# EAGLE library part RASPBERRY_PI4/3B+/ZERO (library FlashPCB_DevBoards)
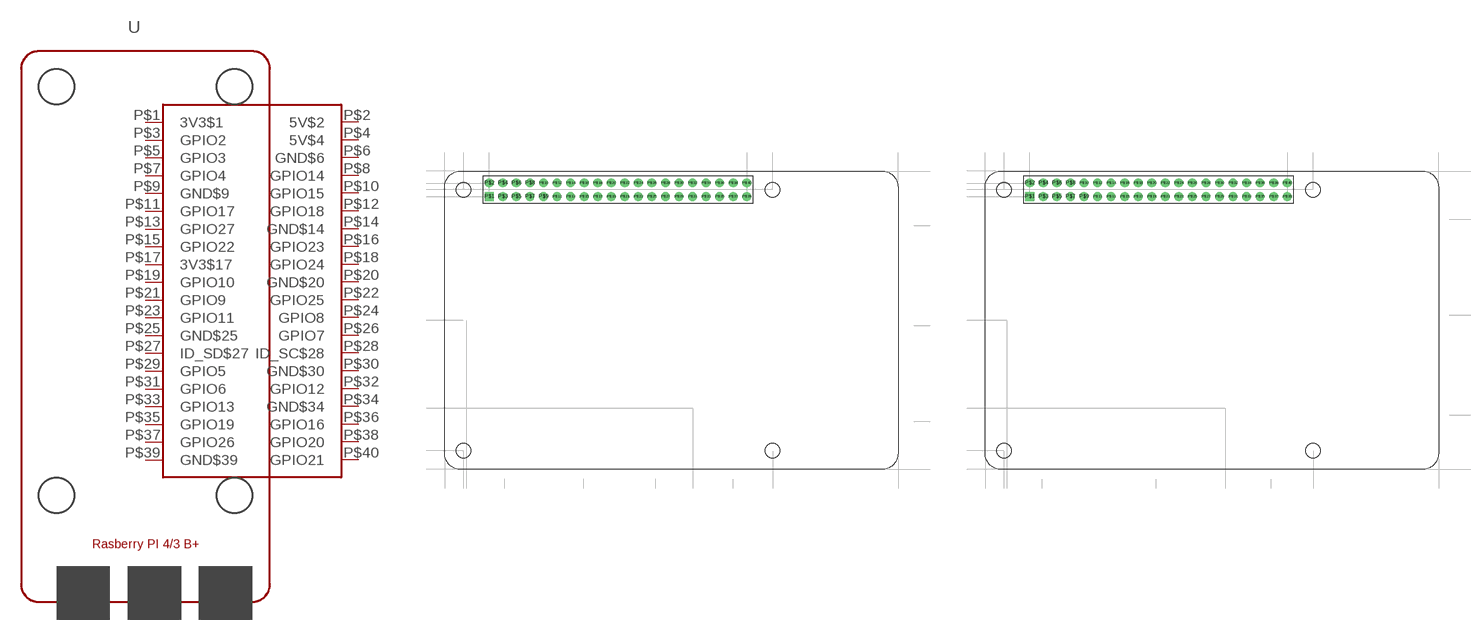
[diagram p7: symbol with the pads of RASPBERRY_PI4_HAT; footprints RASPBERRY_PI4_HAT, RASPBERRY_PI3B/B+_HAT]

Designator prefix U

## RASPBERRY_PI4/3B+/ZEROPI4  [RASPBERRY_PI4_HAT]
P$1  3V3$1
P$2  5V$2
P$3  GPIO2
P$4  5V$4
P$5  GPIO3
P$6  GND$6
P$7  GPIO4
P$8  GPIO14
P$9  GND$9
P$10  GPIO15
P$11  GPIO17
P$12  GPIO18
P$13  GPIO27
P$14  GND$14
P$15  GPIO22
P$16  GPIO23
P$17  3V3$17
P$18  GPIO24
P$19  GPIO10
P$20  GND$20
P$21  GPIO9
P$22  GPIO25
P$23  GPIO11
P$24  GPIO8
P$25  GND$25
P$26  GPIO7
P$27  ID_SD$27
P$28  ID_SC$28
P$29  GPIO5
P$30  GND$30
P$31  GPIO6
P$32  GPIO12
P$33  GPIO13
P$34  GND$34
P$35  GPIO19
P$36  GPIO16
P$37  GPIO26
P$38  GPIO20
P$39  GND$39
P$40  GPIO21

## RASPBERRY_PI4/3B+/ZEROPI3B/B+  [RASPBERRY_PI3B/B+_HAT]
Pads as for RASPBERRY_PI4_HAT

## RASPBERRY_PI4/3B+/ZERORASPBERRY_PI_ZERO  [RASPBERRY_PI_ZERO_HAT]
Pads as for RASPBERRY_PI4_HAT

## Footprint RASPBERRY_PI4_HAT (pad centres in mm)
kitID='6345d01949babf92f2962490'
drill 1.1 square: P$1 8.37,51.23
drill 1.1: P$2 8.37,53.77; P$3 10.91,51.23; P$4 10.91,53.77; P$5 13.45,51.23; P$6 13.45,53.77; P$7 15.99,51.23; P$8 15.99,53.77; P$9 18.53,51.23; P$10 18.53,53.77; P$11 21.07,51.23; P$12 21.07,53.77; P$13 23.61,51.23; P$14 23.61,53.77; P$15 26.15,51.23; P$16 26.15,53.77; P$17 28.69,51.23; P$18 28.69,53.77; P$19 31.23,51.23; P$20 31.23,53.77; P$21 33.77,51.23; P$22 33.77,53.77; P$23 36.31,51.23; P$24 36.31,53.77; P$25 38.85,51.23; P$26 38.85,53.77; P$27 41.39,51.23; P$28 41.39,53.77; P$29 43.93,51.23; P$30 43.93,53.77; P$31 46.47,51.23; P$32 46.47,53.77; P$33 49.01,51.23; P$34 49.01,53.77; P$35 51.55,51.23; P$36 51.55,53.77; P$37 54.09,51.23; P$38 54.09,53.77; P$39 56.63,51.23; P$40 56.63,53.77
hole 2.7 at 3.5,52.5
hole 2.7 at 3.5,3.5
hole 2.7 at 61.5,3.5
hole 2.7 at 61.5,52.5

## Footprint RASPBERRY_PI3B/B+_HAT (pad centres in mm)
kitID='6345d01949babf92f2962492'
drill 1.1 square: P$1 8.37,51.23
drill 1.1: P$2 8.37,53.77; P$3 10.91,51.23; P$4 10.91,53.77; P$5 13.45,51.23; P$6 13.45,53.77; P$7 15.99,51.23; P$8 15.99,53.77; P$9 18.53,51.23; P$10 18.53,53.77; P$11 21.07,51.23; P$12 21.07,53.77; P$13 23.61,51.23; P$14 23.61,53.77; P$15 26.15,51.23; P$16 26.15,53.77; P$17 28.69,51.23; P$18 28.69,53.77; P$19 31.23,51.23; P$20 31.23,53.77; P$21 33.77,51.23; P$22 33.77,53.77; P$23 36.31,51.23; P$24 36.31,53.77; P$25 38.85,51.23; P$26 38.85,53.77; P$27 41.39,51.23; P$28 41.39,53.77; P$29 43.93,51.23; P$30 43.93,53.77; P$31 46.47,51.23; P$32 46.47,53.77; P$33 49.01,51.23; P$34 49.01,53.77; P$35 51.55,51.23; P$36 51.55,53.77; P$37 54.09,51.23; P$38 54.09,53.77; P$39 56.63,51.23; P$40 56.63,53.77
hole 2.7 at 3.5,52.5
hole 2.7 at 3.5,3.5
hole 2.7 at 61.5,3.5
hole 2.7 at 61.5,52.5

## Footprint RASPBERRY_PI_ZERO_HAT (pad centres in mm)
kitID='6345d01a49babf92f2962494'
drill 1.1 square: P$1 8.37,25.23
drill 1.1: P$2 8.37,27.77; P$3 10.91,25.23; P$4 10.91,27.77; P$5 13.45,25.23; P$6 13.45,27.77; P$7 15.99,25.23; P$8 15.99,27.77; P$9 18.53,25.23; P$10 18.53,27.77; P$11 21.07,25.23; P$12 21.07,27.77; P$13 23.61,25.23; P$14 23.61,27.77; P$15 26.15,25.23; P$16 26.15,27.77; P$17 28.69,25.23; P$18 28.69,27.77; P$19 31.23,25.23; P$20 31.23,27.77; P$21 33.77,25.23; P$22 33.77,27.77; P$23 36.31,25.23; P$24 36.31,27.77; P$25 38.85,25.23; P$26 38.85,27.77; P$27 41.39,25.23; P$28 41.39,27.77; P$29 43.93,25.23; P$30 43.93,27.77; P$31 46.47,25.23; P$32 46.47,27.77; P$33 49.01,25.23; P$34 49.01,27.77; P$35 51.55,25.23; P$36 51.55,27.77; P$37 54.09,25.23; P$38 54.09,27.77; P$39 56.63,25.23; P$40 56.63,27.77
hole 2.7 at 3.5,26.5
hole 2.7 at 3.5,3.5
hole 2.7 at 61.5,3.5
hole 2.7 at 61.5,26.5